# Altium schematic symbol library cheating-calc.SchLib: 4 symbols
Pins are listed as number, name and electrical type; pins without a type are passive.

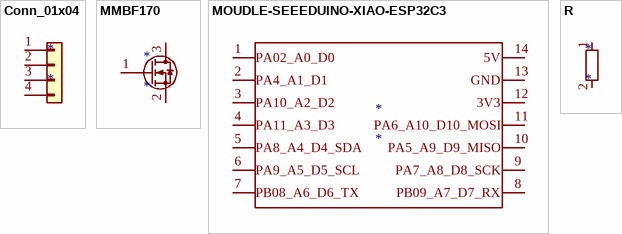
[diagram p0: symbols Conn_01x04 to R]

## Conn_01x04
designator *
pins: 1 Pin_1, 2 Pin_2, 3 Pin_3, 4 Pin_4

## MMBF170
designator *
pins: 1 G, 2 S, 3 D

## MOUDLE-SEEEDUINO-XIAO-ESP32C3
designator *
pins: 1 PA02_A0_D0, 2 PA4_A1_D1, 3 PA10_A2_D2, 4 PA11_A3_D3, 5 PA8_A4_D4_SDA, 6 PA9_A5_D5_SCL, 7 PB08_A6_D6_TX, 8 PB09_A7_D7_RX, 9 PA7_A8_D8_SCK, 10 PA5_A9_D9_MISO, 11 PA6_A10_D10_MOSI, 12 3V3, 13 GND, 14 5V

## R
designator *
pins: 1, 2